# EAGLE library part VS1053 (library scono)
https://www.digikey.com/product-detail/en/adafruit-industries-llc/1681/1528-2645-ND/
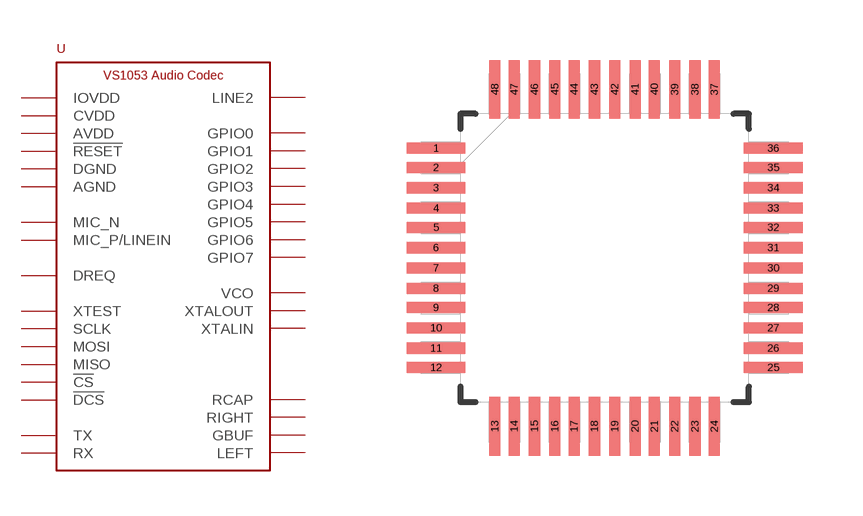
[diagram p49: symbol with the pads of QFP50P900X900X120-48N; footprint QFP50P900X900X120-48N]

Designator prefix U

## VS1053  [QFP50P900X900X120-48N]
1  MIC_P/LINEIN
2  MIC_N
3  !RESET!
4  DGND
5  CVDD
6  IOVDD
7  CVDD
8  DREQ
9  GPIO2
10  GPIO3
11  GPIO6
12  GPIO7
13  !DCS!
14  IOVDD
15  VCO
16  DGND
17  XTALOUT
18  XTALIN
19  IOVDD
20  DGND
21  DGND
22  DGND
23  !CS!
24  CVDD
25  GPIO5
26  RX
27  TX
28  SCLK
29  MOSI
30  MISO
31  CVDD
32  XTEST
33  GPIO0
34  GPIO1
35  DGND
36  GPIO4
37  AGND
38  AVDD
39  RIGHT
40  AGND
41  AGND
42  GBUF
43  AVDD
44  RCAP
45  AVDD
46  LEFT
47  AGND
48  LINE2

## Footprint QFP50P900X900X120-48N (pad centres in mm)
smd 1.473 x 0.279: 1 -4.216,2.743; 2 -4.216,2.261; 3 -4.216,1.753; 4 -4.216,1.245; 5 -4.216,0.762; 6 -4.216,0.254; 7 -4.216,-0.254; 8 -4.216,-0.762; 9 -4.216,-1.245; 10 -4.216,-1.753; 11 -4.216,-2.261; 12 -4.216,-2.743; 25 4.216,-2.743; 26 4.216,-2.261; 27 4.216,-1.753; 28 4.216,-1.245; 29 4.216,-0.762; 30 4.216,-0.254; 31 4.216,0.254; 32 4.216,0.762; 33 4.216,1.245; 34 4.216,1.753; 35 4.216,2.261; 36 4.216,2.743
smd 0.279 x 1.473: 13 -2.743,-4.216; 14 -2.261,-4.216; 15 -1.753,-4.216; 16 -1.245,-4.216; 17 -0.762,-4.216; 18 -0.254,-4.216; 19 0.254,-4.216; 20 0.762,-4.216; 21 1.245,-4.216; 22 1.753,-4.216; 23 2.261,-4.216; 24 2.743,-4.216; 37 2.743,4.216; 38 2.261,4.216; 39 1.753,4.216; 40 1.245,4.216; 41 0.762,4.216; 42 0.254,4.216; 43 -0.254,4.216; 44 -0.762,4.216; 45 -1.245,4.216; 46 -1.753,4.216; 47 -2.261,4.216; 48 -2.743,4.216